# Altium footprint library NG_Passive.PcbLib: 16 footprints
Each footprint in its own frame and in the unit in brackets; x right, y up, seen from the top. Pads: shape width x height; smd on the part's side, far side on the other; paste and mask are expansions set on the pad; w line width, h text height; cw(c..) or ccw(c..) is an arc to the next point about the centre after c.
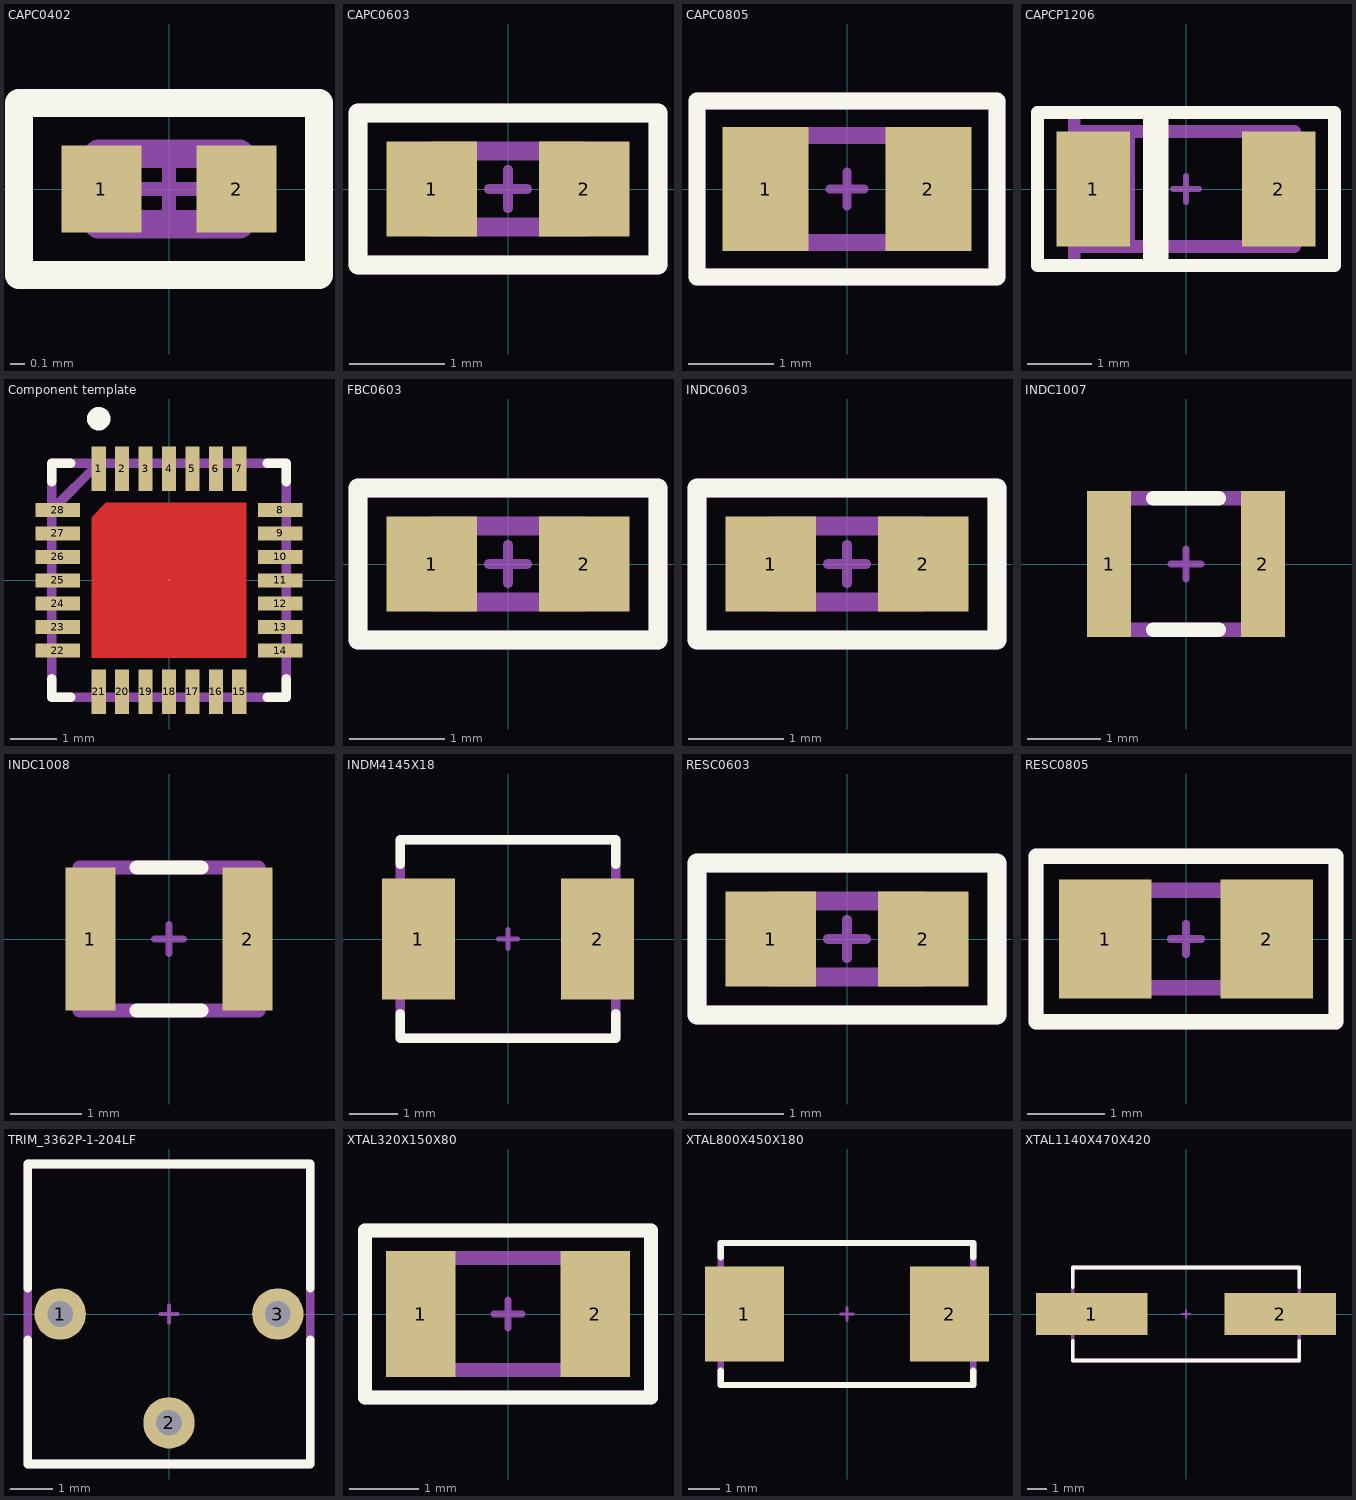
[diagram p0: the footprints below, top view; thin cyan lines are the x and y axes]

## CAPC0402 [mm]
height 0.8
pads (2):
  rect 0.57x0.62 smd mask+0.05: 1(-0.48,0) 2(0.48,0)
Top Overlay:
  lines w0.2: -1.065,-0.61 -1.065,0.61 1.065,0.61 1.065,-0.61 -1.065,-0.61
Mechanical 4:
  text ".Designator" at 0.15,0.417 h0.8
Top Component Center:
  lines w0.1: -0.2,0 0.2,0 ; 0,-0.2 0,0.2
Top Component Outline:
  lines w0.2: -0.5,-0.25 0.5,-0.25 0.5,0.25 -0.5,0.25 -0.5,-0.25
Top Assembly:
  lines w0.2: -1.065,-0.61 -1.065,0.61 1.065,0.61 1.065,-0.61 -1.065,-0.61
  text ".Comment" at -3.639,-0.508 h1.02
3D body "GJM1555C1H300JB01D.step": height 0.55, standoff 0, extent -0.5,-0.25 0.5,0.25

## CAPC0603 [mm]
height 0.8
pads (2):
  rect 0.95x1 smd mask+0.05: 1(-0.8,0) 2(0.8,0)
Top Overlay:
  lines w0.2: -1.575,-0.8 1.575,-0.8 1.575,0.8 -1.575,0.8 -1.575,-0.8
Mechanical 4:
  text ".Designator" at 0.15,0.417 h0.8
Top Component Center:
  lines w0.1: -0.2,0 0.2,0 ; 0,-0.2 0,0.2
Top Component Outline:
  lines w0.2: -0.8,-0.4 0.8,-0.4 0.8,0.4 -0.8,0.4 -0.8,-0.4
Top Assembly:
  lines w0.2: -1.575,-0.8 1.575,-0.8 1.575,0.8 -1.575,0.8 -1.575,-0.8
  text ".Comment" at -3.639,-0.508 h1.02
3D body "ANTC1608X90N.step": height 0.8, standoff 0, extent -0.8,-0.45 0.8,0.45

## CAPC0805 [mm]
height 0.8
pads (2):
  rect 1x1.45 smd mask+0.05: 1(-0.95,0) 2(0.95,0)
Top Overlay:
  lines w0.2: -1.75,-1.025 1.75,-1.025 1.75,1.025 -1.75,1.025 -1.75,-1.025
Mechanical 4:
  text ".Designator" at 0.15,0.417 h0.8
Top Component Center:
  lines w0.1: -0.2,0 0.2,0 ; 0,-0.2 0,0.2
Top Component Outline:
  lines w0.2: -1,-0.625 -1,0.625 1,0.625 1,-0.625 -1,-0.625
Top Assembly:
  lines w0.2: -1.75,-1.025 -1.75,1.025 1.75,1.025 1.75,-1.025 -1.75,-1.025
  text ".Comment" at -3.639,-0.508 h1.02
3D body "GRT21BC80G476ME13L.step": height 1.45, standoff 0, extent -1,-0.625 1,0.625

## CAPCP1206 [mm] "Generic description"
height 0.8
pads (2):
  rect 1.15x1.8 smd mask+0.05: 1(-1.45,0) 2(1.45,0)
Top Overlay:
  lines w0.2: -2.325,-1.2 -2.325,1.2 2.325,1.2 2.325,-1.2 -2.325,-1.2
  lines w0.4: -0.475,-1.1 -0.475,1.1
Mechanical 4:
  text ".Designator" at 0.15,0.417 h0.8
Top Component Center:
  lines w0.1: -0.2,0 0.2,0 ; 0,-0.2 0,0.2
Top Component Outline:
  lines w0.2: -1.7,-0.9 1.7,-0.9 1.7,0.9 -1.7,0.9 -1.7,-0.9
  lines w0.4: -1,-0.8 -1,0.8
Top Assembly:
  lines w0.2: -1.75,-1.2 -1.75,1.2 ; -2.325,-1.2 -2.325,1.2 2.325,1.2 2.325,-1.2 -2.325,-1.2
  text ".Comment" at -3.639,-0.508 h1.02
3D body "T491A106K010AT.step": height 1.81, standoff 0, extent -1.7,-0.9 1.7,0.9

## Component template [mm] "Generic description"
height 0.8
pads (29):
  rect 0.3x0.95 smd: 1(-1.5,2.38) 2(-1,2.38) 3(-0.5,2.38) 4(0,2.38) 5(0.5,2.38) 6(1,2.38) 7(1.5,2.38) 15(1.5,-2.38) 16(1,-2.38) 17(0.5,-2.38) 18(0,-2.38) 19(-0.5,-2.38) 20(-1,-2.38) 21(-1.5,-2.38)
  rect 0.95x0.3 smd: 8(2.38,1.5) 9(2.38,1) 10(2.38,0.5) 11(2.38,0) 12(2.38,-0.5) 13(2.38,-1) 14(2.38,-1.5) 22(-2.38,-1.5) 23(-2.38,-1) 24(-2.38,-0.5) 25(-2.38,0) 26(-2.38,0.5) 27(-2.38,1) 28(-2.38,1.5)
  round 0.025 smd: 29(0,0)
Top Layer:
  region: -1.65,-1.65 -1.65,1.35 -1.35,1.65 1.65,1.65 1.65,-1.65
Top Overlay:
  circle w0.3: c-1.5,3.45 r0.1
  lines w0.2: -2.5,-2.1 -2.5,-2.5 -2.1,-2.5 ; -2.5,2.1 -2.5,2.5 -2.1,2.5 ; 2.1,-2.5 2.5,-2.5 2.5,-2.1 ; 2.1,2.5 2.5,2.5 2.5,2.1
Mechanical 4:
  text ".Designator" at 0.15,0.417 h0.8
Top Component Center:
  lines w0.1: -0.2,0 0.2,0 ; 0,-0.2 0,0.2
Top Component Outline:
  lines w0.2: -2.5,1.5 -1.5,2.5 ; -2.5,-2.5 2.5,-2.5 2.5,2.5 -2.5,2.5 -2.5,-2.5
3D body "21-0140L_T2855-8_MXM.step": height 0.81, standoff 0, extent -2.553,-2.553 2.553,2.553

## FBC0603 [mm]
height 0.8
pads (2):
  rect 0.95x1 smd mask+0.05: 1(-0.8,0) 2(0.8,0)
Top Overlay:
  lines w0.2: -1.575,-0.8 1.575,-0.8 1.575,0.8 -1.575,0.8 -1.575,-0.8
Mechanical 4:
  text ".Designator" at 0.15,0.417 h0.8
Top Component Center:
  lines w0.1: -0.2,0 0.2,0 ; 0,-0.2 0,0.2
Top Component Outline:
  lines w0.2: -0.8,-0.4 0.8,-0.4 0.8,0.4 -0.8,0.4 -0.8,-0.4
Top Assembly:
  lines w0.2: -1.575,-0.8 -1.575,0.8 1.575,0.8 1.575,-0.8 -1.575,-0.8
  text ".Comment" at -3.639,-0.508 h1.02
3D body "IND_BLM18_0603_MUR.step": height 0.94, standoff 0, extent -0.876,-0.47 0.876,0.47

## INDC0603 [mm]
height 0.8
pads (2):
  rect 0.95x1 smd mask+0.05: 1(-0.8,0) 2(0.8,0)
Top Overlay:
  lines w0.2: -1.575,-0.8 1.575,-0.8 1.575,0.8 -1.575,0.8 -1.575,-0.8
Mechanical 4:
  text ".Designator" at 0.15,0.417 h0.8
Top Component Center:
  lines w0.1: -0.2,0 0.2,0 ; 0,-0.2 0,0.2
Top Component Outline:
  lines w0.2: -0.8,-0.4 0.8,-0.4 0.8,0.4 -0.8,0.4 -0.8,-0.4
Top Assembly:
  lines w0.2: -1.575,-0.8 -1.575,0.8 1.575,0.8 1.575,-0.8 -1.575,-0.8
  text ".Comment" at -3.639,-0.508 h1.02

## INDC1007 [mm]
height 1.8
pads (2):
  rect 0.6x2 smd mask+0.05: 1(-1.05,0) 2(1.05,0)
Top Overlay:
  lines w0.2: -0.45,-0.9 0.45,-0.9 ; -0.45,0.9 0.45,0.9
Mechanical 4:
  text ".Designator" at -4.049,-0.283 h0.8
Top Component Center:
  lines w0.1: -0.2,0 0.2,0 ; 0,-0.2 0,0.2
Top Component Outline:
  lines w0.2: -1.25,-0.9 -1.25,0.9 1.25,0.9 1.25,-0.9 -1.25,-0.9
Top Assembly:
  lines w0.2: -1.25,-0.9 1.25,-0.9 1.25,0.9 -1.25,0.9 -1.25,-0.9
  text ".Comment" at -3.639,-0.508 h1.02
3D body "CBC2518T4R7M.step": height 2, standoff 0, extent -1.25,-0.9 1.25,0.9

## INDC1008 [mm]
height 1.8
pads (2):
  rect 0.7x2 smd mask+0.05: 1(-1.1,0) 2(1.1,0)
Top Overlay:
  lines w0.2: -0.45,-1 0.45,-1 ; -0.45,1 0.45,1
Mechanical 4:
  text ".Designator" at -4.049,-0.283 h0.8
Top Component Center:
  lines w0.1: -0.2,0 0.2,0 ; 0,-0.2 0,0.2
Top Component Outline:
  lines w0.2: -1.25,-1 -1.25,1 1.25,1 1.25,-1 -1.25,-1
Top Assembly:
  lines w0.2: -1.25,-1 1.25,-1 1.25,1 -1.25,1 -1.25,-1
  text ".Comment" at -3.639,-0.508 h1.02
3D body "TMS252012ALM-1R5MTAA.stp": height 1.2, standoff 0, extent -1.25,-1 1.25,1

## INDM4145X18 [mm]
height 0.8
pads (2):
  rect 1.5x2.5 smd mask+0.05: 1(-1.85,0) 2(1.85,0)
Top Overlay:
  lines w0.2: -2.225,-1.55 -2.225,-2.05 2.225,-2.05 2.225,-1.55 ; -2.225,1.55 -2.225,2.05 2.225,2.05 2.225,1.55
Mechanical 4:
  text ".Designator" at 0.15,0.417 h0.8
Top Component Center:
  lines w0.1: -0.2,0 0.2,0 ; 0,-0.2 0,0.2
Top Component Outline:
  lines w0.2: -2.225,-2.05 2.225,-2.05 2.225,2.05 -2.225,2.05 -2.225,-2.05
Top Assembly:
  lines w0.2: -2.225,-2.05 -2.225,2.05 2.225,2.05 2.225,-2.05 -2.225,-2.05
  text ".Comment" at -3.639,-0.508 h1.02
3D body "SRP4020TA series.stp": height 2.1, standoff 0.2, extent -2.2,-2.1 2.2,2.1

## RESC0603 [mm] "Generic description"
height 0.55
pads (2):
  rect 0.95x1 smd mask+0.05: 1(-0.8,0) 2(0.8,0)
Top Overlay:
  lines w0.2: -1.575,-0.8 1.575,-0.8 1.575,0.8 -1.575,0.8 -1.575,-0.8
Mechanical 4:
  text ".Designator" at 0.15,0.417 h0.8
Top Component Center:
  lines w0.1: -0.2,0 0.2,0 ; 0,-0.2 0,0.2
Top Component Outline:
  lines w0.2: -0.8,-0.4 -0.8,0.4 0.8,0.4 0.8,-0.4 -0.8,-0.4
Top Assembly:
  lines w0.2: -1.575,-0.8 1.575,-0.8 1.575,0.8 -1.575,0.8 -1.575,-0.8
  text ".Comment" at -3.639,-0.508 h1.02
3D body "STA_RMCF0603_STP.step": height 0.56, standoff 0, extent -0.851,-0.47 0.851,0.47

## RESC0805 [mm] "Generic description"
height 0.6
pads (2):
  rect 1.2x1.55 smd mask+0.05: 1(-1.05,0) 2(1.05,0)
Top Overlay:
  lines w0.2: -1.95,-1.075 1.95,-1.075 1.95,1.075 -1.95,1.075 -1.95,-1.075
Mechanical 4:
  text ".Designator" at 0.15,0.417 h0.8
Top Component Center:
  lines w0.1: -0.2,0 0.2,0 ; 0,-0.2 0,0.2
Top Component Outline:
  lines w0.2: -1.016,-0.635 1.016,-0.635 1.016,0.635 -1.016,0.635 -1.016,-0.635
Top Assembly:
  lines w0.2: -1.95,-1.075 1.95,-1.075 1.95,1.075 -1.95,1.075 -1.95,-1.075
  text ".Comment" at -3.639,-0.508 h1.02
3D body "RC0805FR-07200KL.step": height 0.6, standoff 0, extent -1,-0.625 1,0.625

## TRIM_3362P-1-204LF [mm] "3362P-1-204LF Trimmer"
height 4.7
pads (3):
  round 1.2 hole 0.6 mask+0.05: 1(-2.54,0) 2(0,-2.54) 3(2.54,0)
Top Overlay:
  lines w0.2: -3.3,-0.6 -3.3,-3.5 3.3,-3.5 3.3,-0.6 ; -3.3,0.6 -3.3,3.5 3.3,3.5 3.3,0.6
Mechanical 4:
  text ".Designator" at -3.999,-0.267 h0.8
Top Component Center:
  lines w0.1: -0.2,0 0.2,0 ; 0,-0.2 0,0.2
Top Component Outline:
  lines w0.2: -3.3,-3.5 -3.3,3.5 3.3,3.5 3.3,-3.5 -3.3,-3.5
Top Assembly:
  lines w0.2: -3.3,-3.5 -3.3,3.5 3.3,3.5 3.3,-3.5 -3.3,-3.5
  text ".Comment" at -3.639,-0.508 h1.02
3D body "3362P-1-204LF.step": height 4.88, standoff -5.84, extent -3.3,-3.495 3.3,3.495

## XTAL320X150X80 [mm] "Generic description"
height 0.8
pads (2):
  rect 1x1.8 smd: 1(-1.25,0) 2(1.25,0)
Top Overlay:
  lines w0.2: -2.05,-1.2 2.05,-1.2 2.05,1.2 -2.05,1.2 -2.05,-1.2
Mechanical 4:
  text ".Designator" at 0.15,0.483 h1
Top Component Center:
  lines w0.1: -0.2,0 0.2,0 ; 0,-0.2 0,0.2
Top Component Outline:
  lines w0.2: -1.6,-0.8 -1.6,0.8 1.6,0.8 1.6,-0.8 -1.6,-0.8
Top Assembly:
  lines w0.2: -2.05,-1.2 2.05,-1.2 2.05,1.2 -2.05,1.2 -2.05,-1.2
  text ".Comment" at -3.639,-0.508 h1.02
3D body "XTAL_NX3215SA_NDK.step": height 0.89, standoff 0, extent -1.651,-0.8 1.651,0.8

## XTAL800X450X180 [mm] "Generic description"
height 0.16
pads (2):
  rect 2.5x3 smd mask+0.05: 1(-3.25,0) 2(3.25,0)
Top Overlay:
  lines w0.2: -4,-1.8 -4,-2.25 4,-2.25 4,-1.8 ; -4,1.8 -4,2.25 4,2.25 4,1.8
Mechanical 4:
  text ".Designator" at 0.15,0.483 h1
Top Component Center:
  lines w0.1: -0.2,0 0.2,0 ; 0,-0.2 0,0.2
Top Component Outline:
  lines w0.2: -4,-2.25 -4,2.25 4,2.25 4,-2.25 -4,-2.25
Top Assembly:
  lines w0.2: -4,-2.25 -4,2.25 4,2.25 4,-2.25 -4,-2.25
  text ".Comment" at -3.639,-0.508 h1.02
3D body "NX8045GB-8.000000MHZ-LN-CF-001.stp": height 2.1, standoff 0, extent -4.25,-2.25 4.25,2.25

## XTAL1140X470X420 [mm] "Generic description"
height 0.16
pads (2):
  rect 5.6x2.1 smd mask+0.05: 1(-4.75,0) 2(4.75,0)
Top Overlay:
  lines w0.2: -5.7,-1.35 -5.7,-2.35 5.7,-2.35 5.7,-1.35 ; -5.7,1.35 -5.7,2.35 5.7,2.35 5.7,1.35
Mechanical 4:
  text ".Designator" at 0.15,0.483 h1
Top Component Center:
  lines w0.1: -0.2,0 0.2,0 ; 0,-0.2 0,0.2
Top Component Outline:
  lines w0.2: -5.7,-2.35 5.7,-2.35 5.7,2.35 -5.7,2.35 -5.7,-2.35
Top Assembly:
  lines w0.2: -5.7,-2.35 -5.7,2.35 5.7,2.35 5.7,-2.35 -5.7,-2.35
  text ".Comment" at -3.639,-0.508 h1.02
3D body "ABLS-8_000MHZ-B2-T_ABR.step": height 4.07, standoff 0, extent -6.35,-2.35 6.35,2.35